# Altium schematic symbol library connectors.SchLib: 16 symbols
Pins are listed as number, name and electrical type; pins without a type are passive.

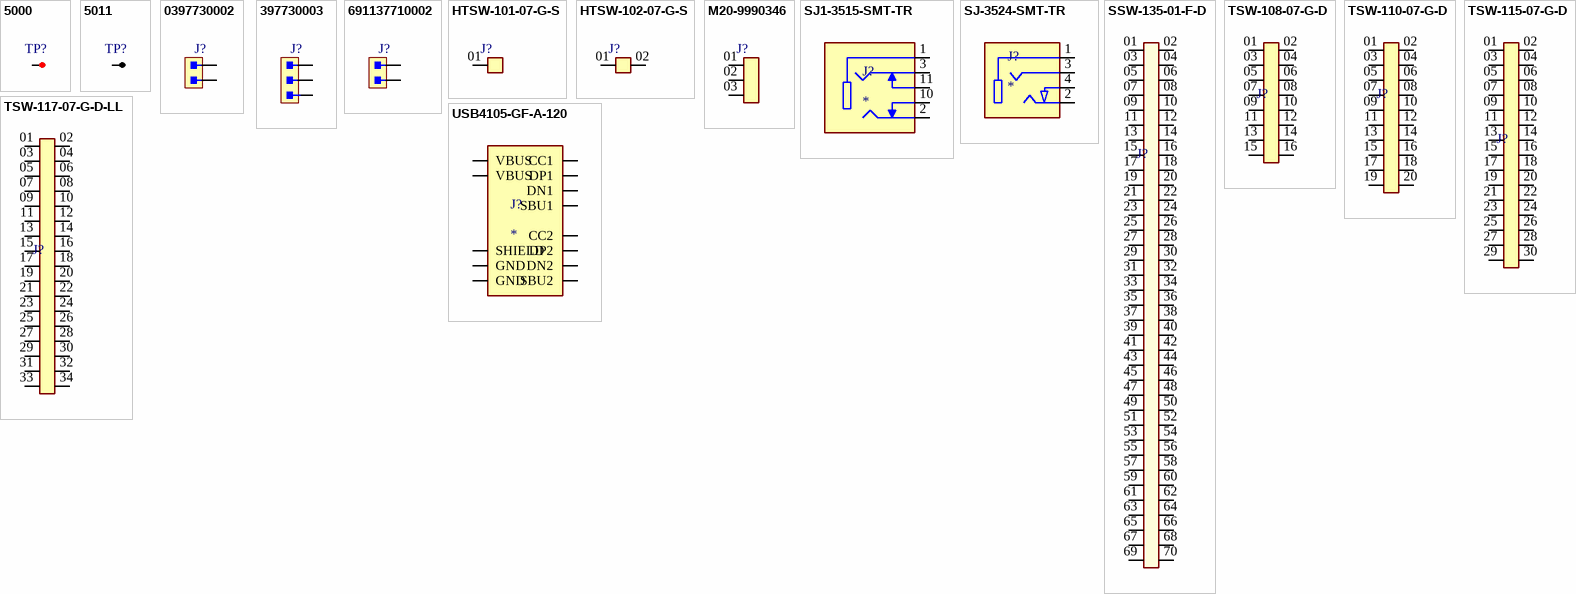
[diagram p0: symbols 5000 to USB4105-GF-A-120]

## 5000
designator TP?  (value not drawn)
Test Point Miniature THM H .300 Nylon 46 Insulated Red PhosBronze/Silver | Keystone Electronics 5000; Manufacturer Part Number: 5000; Supplier: DigiKey; Supplier Part Number: 36-5000-ND; Value: *; Manufacturer: Keystone Electronics; Package/Case: Bulk
footprint KEYSTONE_5000
pins: TP

## 5011
designator TP?  (value not drawn)
Test Point MultiPurpose THM H .445 Nylon 46 Insulated Blk PhosBronze/Silver | Keystone Electronics 5011
footprint KEYSTONE_5011
pins: TP

## 0397730002
designator J?  (value not drawn)
2.54mm Pitch Beau Eurostyle Fixed Mount PCB Terminal Block, Green, 2 Circuits; Manufacturer: Molex; Manufacturer Part Number: 0397730002; Supplier: DigiKey; Supplier Part Number: 0397730002-ND; Package/Case: Bulk; Value: *
footprint MOLEX_0397730002
pins: 1, 2

## 397730003
designator J?  (value not drawn)
2.54mm Pitch Beau Eurostyle Fixed Mount PCB Terminal Block, Green, 3 Circuits; Manufacturer: Molex; Manufacturer Part Number: 0397730003; Supplier: DigiKey; Supplier Part Number: 0397730003-ND; Package/Case: Bulk; Value: *
footprint MOLEX_0397730003
pins: 1, 2, 3

## 691137710002
designator J?  (value not drawn)
2 Position Wire to Board Terminal Block Horizontal with Board 0.197 (5.00mm) Through Hole; Manufacturer: Würth Elektronik; Manufacturer Part Number: 691137710002; Supplier: DigiKey; Supplier Part Number: 732-10955-ND; Package/Case: Bulk; Value: *
footprint WURTH_691137710002
pins: 1, 2

## HTSW-101-07-G-S
designator J?  (value not drawn)
Pin Header, Vertical, Board-to-Board, 1 Rows, 1 Contacts, Through Hole, HTSW Series
footprint SAMTEC_HTSW-101-07-G-S
pins: 01

## HTSW-102-07-G-S
designator J?  (value not drawn)
Pin Header, Vertical, Board-to-Board, 2.54 mm, 1 Rows, 2 Contacts, Through Hole, HTSW; Manufacturer Part Number: HTSW-102-07-G-S; Manufacturer: Samtec Inc.; Value: *; Supplier Part Number: SAM8736-ND; Supplier: DigiKey; Package/Case: Bag
footprint SAMTEC_HTSW-102-XX-X-S
pins: 01, 02

## M20-9990346
designator J?  (value not drawn)
M20 ROHS3Compliant COMMERCIAL UL Connector Header, Cuttable 50Cycles 30mOhm -40C~105C 3A; Manufacturer Part Number: M20-9990346; Manufacturer: Harwin Inc.; Value: *; Supplier: DigiKey; Supplier Part Number: 952-2264-ND; Package/Case: Bulk
footprint HARWIN_M20-9990346
pins: 01, 02, 03

## SJ1-3515-SMT-TR
designator J?
3.5 mm, Stereo, Right Angle, Surface Mount (SMT), Audio Jack Connector; Manufacturer: Same Sky (Formerly CUI Devices); Manufacturer Part Number: SJ1-3515-SMT-TR; Value: *; Supplier: DigiKey; Supplier Part Number: CP1-3515SJCT-ND; Package/Case: CT
footprint SAMESKY_SJ1-3515-SMT
pins: 1 sleeve, 2 tip, 3 ring, 10 tip switch, 11 ring switch

## SJ-3524-SMT-TR
designator J?
3.5 mm, Stereo, Right Angle, Surface Mount (SMT), Audio Jack Connector
footprint AUDIOJACK_RA_SMT_3P5_TRS_1SW
pins: 1 sleeve, 2 tip, 3 ring, 4 tip switch

## SSW-135-01-F-D
designator J?  (value not drawn)
PCB Receptacle, Board-to-Board, 2.54 mm, 2 Rows, 70 Contacts, Solder, SSW Series, Phosphor Bronze
footprint SAMTEC_SSW-135-01-F-D
pins: 01, 02, 03, 04, 05, 06, 07, 08, 09, 10, 11, 12, 13, 14, 15, 16, 17, 18, 19, 20, 21, 22, 23, 24, 25, 26, 27, 28, 29, 30, 31, 32, 33, 34, 35, 36, 37, 38, 39, 40, 41, 42, 43, 44, 45, 46, 47, 48, 49, 50, 51, 52, 53, 54, 55, 56, 57, 58, 59, 60, 61, 62, 63, 64, 65, 66, 67, 68, 69, 70

## TSW-108-07-G-D
designator J?  (value not drawn)
Pin Header, Unshrouded, Board-to-Board, 2.54 mm, 2 Rows, 16 Contacts, Through Hole, TSW; Manufacturer Part Number: TSW-108-07-G-D; Manufacturer: Samtec Inc.; Value: *; Supplier Part Number: SAM1028-08-ND; Supplier: DigiKey; Package/Case: Bulk
footprint SAMTEC_TSW-108-07-G-D
pins: 01, 02, 03, 04, 05, 06, 07, 08, 09, 10, 11, 12, 13, 14, 15, 16

## TSW-110-07-G-D
designator J?  (value not drawn)
Pin Header, Vertical, Board-to-Board, 2.54 mm, 2 Rows, 20 Contacts, Through Hole, HTSW Series; Manufacturer: Samtec Inc.; Manufacturer Part Number: TSW-110-07-G-D; Supplier: DigiKey; Supplier Part Number: SAM1028-10-ND; Value: *; Package/Case: Bulk
footprint SAMTEC_TSW-110-07-G-D
pins: 01, 02, 03, 04, 05, 06, 07, 08, 09, 10, 11, 12, 13, 14, 15, 16, 17, 18, 19, 20

## TSW-115-07-G-D
designator J?  (value not drawn)
Conn, Header, 30Pos, 2Row, 2.54Mm Rohs Compliant: Yes |Samtec, Inc. TSW-115-07-G-D
footprint SAMTEC_TSW-115-07-G-D
pins: 01, 02, 03, 04, 05, 06, 07, 08, 09, 10, 11, 12, 13, 14, 15, 16, 17, 18, 19, 20, 21, 22, 23, 24, 25, 26, 27, 28, 29, 30

## TSW-117-07-G-D-LL
designator J?  (value not drawn)
Pin Header, Board-to-Board, 2.54 mm, 2 Rows, 34 Contacts, Through Hole, TSW Series
footprint SAMTEC_TSW-117-07-G-D-LL
pins: 01, 02, 03, 04, 05, 06, 07, 08, 09, 10, 11, 12, 13, 14, 15, 16, 17, 18, 19, 20, 21, 22, 23, 24, 25, 26, 27, 28, 29, 30, 31, 32, 33, 34

## USB4105-GF-A-120
designator J?
USB Connector, 24 Contact(s), Female, Right Angle, Solder Terminal, Locking, Receptacle; Manufacturer: GCT; Manufacturer Part Number: USB4105-GF-A-120; Value: *; Supplier: DigiKey; Supplier Part Number: 2073-USB4105-GF-A-120CT-ND; Package/Case: CT
footprint GCT_USB4105-GF-A-120
pins: A1_B12 GND (power), A4_B9 VBUS (power), A5 CC1 (io), A6 DP1 (io), A7 DN1 (io), A8 SBU1 (io), B1_A12 GND (power), B4_A9 VBUS (power), B5 CC2 (io), B6 DP2 (io), B7 DN2 (io), B8 SBU2 (io), SH SHIELD (power)